# EAGLE library part DIL40 (library ic-package)
Dual In Line
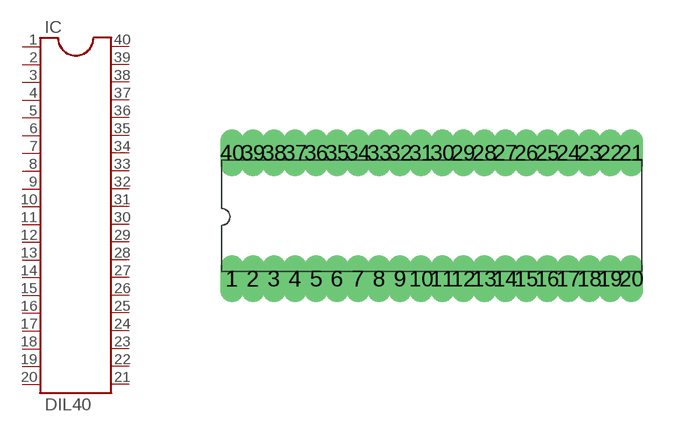
[diagram p14: symbol with the pads of DIL40; footprint DIL40]

Designator prefix IC

## DIL40  [DIL40]
1  1  pas
2  2  pas
3  3  pas
4  4  pas
5  5  pas
6  6  pas
7  7  pas
8  8  pas
9  9  pas
10  10  pas
11  11  pas
12  12  pas
13  13  pas
14  14  pas
15  15  pas
16  16  pas
17  17  pas
18  18  pas
19  19  pas
20  20  pas
21  21  pas
22  22  pas
23  23  pas
24  24  pas
25  25  pas
26  26  pas
27  27  pas
28  28  pas
29  29  pas
30  30  pas
31  31  pas
32  32  pas
33  33  pas
34  34  pas
35  35  pas
36  36  pas
37  37  pas
38  38  pas
39  39  pas
40  40  pas

## Footprint DIL40 (pad centres in mm)
Dual In Line Package
drill 0.203 long: 1 -6.032,-1.905; 2 -5.397,-1.905; 3 -4.763,-1.905; 4 -4.128,-1.905; 5 -3.493,-1.905; 6 -2.857,-1.905; 7 -2.223,-1.905; 8 -1.587,-1.905; 9 -0.953,-1.905; 10 -0.318,-1.905; 11 0.318,-1.905; 12 0.953,-1.905; 13 1.587,-1.905; 14 2.223,-1.905; 15 2.857,-1.905; 16 3.493,-1.905; 17 4.128,-1.905; 18 4.763,-1.905; 19 5.397,-1.905; 20 6.032,-1.905; 21 6.032,1.905; 22 5.397,1.905; 23 4.763,1.905; 24 4.128,1.905; 25 3.493,1.905; 26 2.857,1.905; 27 2.223,1.905; 28 1.587,1.905; 29 0.953,1.905; 30 0.318,1.905; 31 -0.318,1.905; 32 -0.953,1.905; 33 -1.587,1.905; 34 -2.223,1.905; 35 -2.857,1.905; 36 -3.493,1.905; 37 -4.128,1.905; 38 -4.763,1.905; 39 -5.397,1.905; 40 -6.032,1.905